# EAGLE library part ULN2803ADWR (library NervousSys_V1)
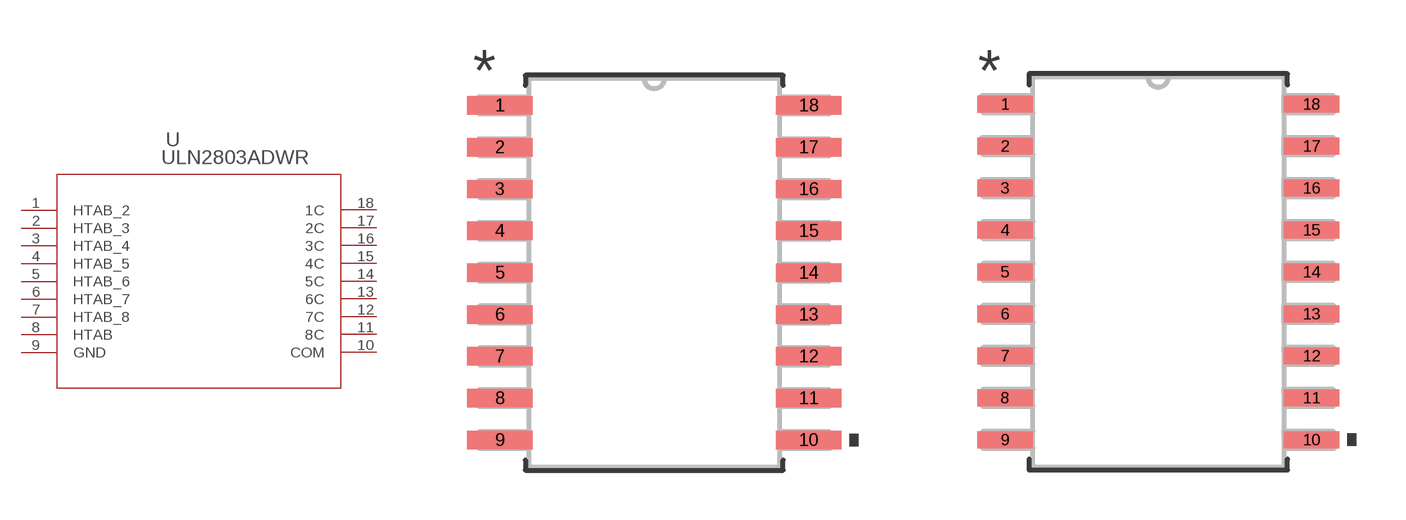
[diagram p5: symbol with the pads of DW18; footprints DW18, DW18-L]

Designator prefix U

## ULN2803ADWR (MANUFACTURER_PART_NUMBER: ULN2803ADWR; VENDOR: Vendor)  [DW18]
1  HTAB_2  pwr
2  HTAB_3  pwr
3  HTAB_4  pwr
4  HTAB_5  pwr
5  HTAB_6  pwr
6  HTAB_7  pwr
7  HTAB_8  pwr
8  HTAB  pwr
9  GND  pwr
10  COM  pas
11  8C  out
12  7C  out
13  6C  out
14  5C  out
15  4C  out
16  3C  out
17  2C  out
18  1C  out

## ULN2803ADWRDW18-L (MANUFACTURER_PART_NUMBER: ULN2803ADWR; VENDOR: Vendor)  [DW18-L]
Pads as for DW18

## ULN2803ADWRDW18-M (MANUFACTURER_PART_NUMBER: ULN2803ADWR; VENDOR: Vendor)  [DW18-M]
Pads as for DW18

## Footprint DW18 (pad centres in mm)
smd 1.981 x 0.559: 1 -4.686,5.08; 2 -4.686,3.81; 3 -4.686,2.54; 4 -4.686,1.27; 5 -4.686,0; 6 -4.686,-1.27; 7 -4.686,-2.54; 8 -4.686,-3.81; 9 -4.686,-5.08; 10 4.686,-5.08; 11 4.686,-3.81; 12 4.686,-2.54; 13 4.686,-1.27; 14 4.686,0; 15 4.686,1.27; 16 4.686,2.54; 17 4.686,3.81; 18 4.686,5.08

## Footprint DW18-L (pad centres in mm)
smd 1.676 x 0.508: 1 -4.636,5.08; 2 -4.636,3.81; 3 -4.636,2.54; 4 -4.636,1.27; 5 -4.636,0; 6 -4.636,-1.27; 7 -4.636,-2.54; 8 -4.636,-3.81; 9 -4.636,-5.08; 10 4.636,-5.08; 11 4.636,-3.81; 12 4.636,-2.54; 13 4.636,-1.27; 14 4.636,0; 15 4.636,1.27; 16 4.636,2.54; 17 4.636,3.81; 18 4.636,5.08

## Footprint DW18-M (pad centres in mm)
smd 2.286 x 0.61: 1 -4.737,5.08; 2 -4.737,3.81; 3 -4.737,2.54; 4 -4.737,1.27; 5 -4.737,0; 6 -4.737,-1.27; 7 -4.737,-2.54; 8 -4.737,-3.81; 9 -4.737,-5.08; 10 4.737,-5.08; 11 4.737,-3.81; 12 4.737,-2.54; 13 4.737,-1.27; 14 4.737,0; 15 4.737,1.27; 16 4.737,2.54; 17 4.737,3.81; 18 4.737,5.08